# Altium schematic symbol library SCH - BATTERY - KEYSTONE 1043.SCHLIB: 1 symbol
Pins are listed as number, name and electrical type; pins without a type are passive.

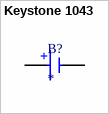
[diagram p0: symbol Keystone 1043]

## Keystone 1043
designator B?
pins: 1 +, 2 -